# EAGLE library part DRV8839 (library bschulz)
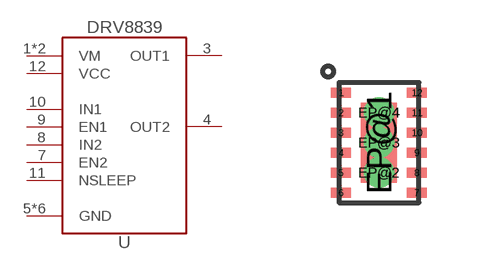
[diagram p108: symbol with the pads of DSS0012A; footprint DSS0012A]

Designator prefix U

## DRV8839  [DSS0012A]
1  VM  pwr
2  VM  pwr
3  OUT1  pwr
4  OUT2  pwr
5  GND  pwr
6  GND  pwr
7  EN2  in
8  IN2  in
9  EN1  in
10  IN1  in
11  NSLEEP  in
12  VCC  pwr
EP@1  GND  pwr
EP@2  GND  pwr
EP@3  GND  pwr
EP@4  GND  pwr

## Footprint DSS0012A (pad centres in mm)
Land pattern for DRV8839 <http://www.ti.com/lit/ds/symlink/drv8839.pdf>
smd 0.5 x 0.25: 1 -0.95,1.25; 2 -0.95,0.75; 3 -0.95,0.25; 4 -0.95,-0.25; 5 -0.95,-0.75; 6 -0.95,-1.25; 7 0.95,-1.25; 8 0.95,-0.75; 9 0.95,-0.25; 10 0.95,0.25; 11 0.95,0.75; 12 0.95,1.25
smd 0.9 x 2: EP@1 0,0
drill 0.254 pad 0.406: EP@2 0,-0.75; EP@3 0,0; EP@4 0,0.75